# EAGLE library part ICS1893BF (library lbm)
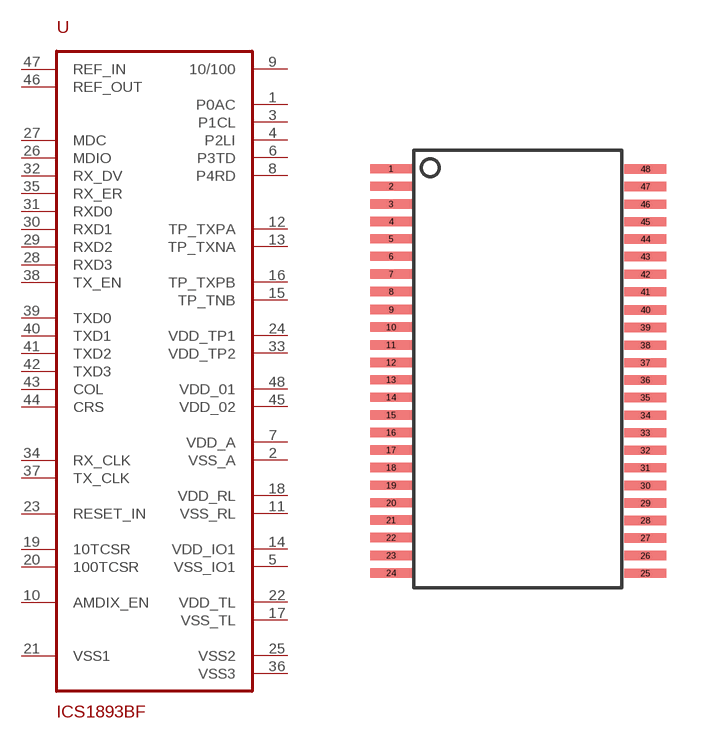
[diagram p28: symbol with the pads of ICS1893BF; footprint ICS1893BF]

Designator prefix -

## ICS1893BF  [ICS1893BF]
1  P0AC
2  VSS_A
3  P1CL
4  P2LI
5  VSS_IO1
6  P3TD
7  VDD_A
8  P4RD
9  10/100
10  AMDIX_EN
11  VSS_RL
12  TP_TXPA
13  TP_TXNA
14  VDD_IO1
15  TP_TNB
16  TP_TXPB
17  VSS_TL
18  VDD_RL
19  10TCSR
20  100TCSR
21  VSS1
22  VDD_TL
23  RESET_IN
24  VDD_TP1
25  VSS2
26  MDIO
27  MDC
28  RXD3
29  RXD2
30  RXD1
31  RXD0
32  RX_DV
33  VDD_TP2
34  RX_CLK
35  RX_ER
36  VSS3
37  TX_CLK
38  TX_EN
39  TXD0
40  TXD1
41  TXD2
42  TXD3
43  COL
44  CRS
45  VDD_02
46  REF_OUT
47  REF_IN
48  VDD_01

## Footprint ICS1893BF (pad centres in mm)
smd 1.54 x 0.34: 1 -0.83,-0.68; 2 -0.83,-1.32; 3 -0.83,-1.97; 4 -0.83,-2.61; 5 -0.83,-3.24; 6 -0.83,-3.88; 7 -0.83,-4.53; 8 -0.83,-5.17; 9 -0.83,-5.83; 10 -0.83,-6.47; 11 -0.83,-7.12; 12 -0.83,-7.76; 13 -0.83,-8.39; 14 -0.83,-9.03; 15 -0.83,-9.68; 16 -0.83,-10.32; 17 -0.83,-10.96; 18 -0.83,-11.6; 19 -0.83,-12.25; 20 -0.83,-12.89; 21 -0.83,-13.52; 22 -0.83,-14.16; 23 -0.83,-14.81; 24 -0.83,-15.45; 25 8.46,-15.46; 26 8.46,-14.82; 27 8.46,-14.17; 28 8.46,-13.53; 29 8.46,-12.9; 30 8.46,-12.26; 31 8.46,-11.61; 32 8.46,-10.97; 33 8.46,-10.33; 34 8.46,-9.69; 35 8.46,-9.04; 36 8.46,-8.4; 37 8.46,-7.77; 38 8.46,-7.13; 39 8.46,-6.48; 40 8.46,-5.84; 41 8.46,-5.18; 42 8.46,-4.54; 43 8.46,-3.89; 44 8.46,-3.25; 45 8.46,-2.62; 46 8.46,-1.98; 47 8.46,-1.33; 48 8.46,-0.69